# EAGLE library part 74X40105 (library Custom)
4Bit x 16 Shift Register
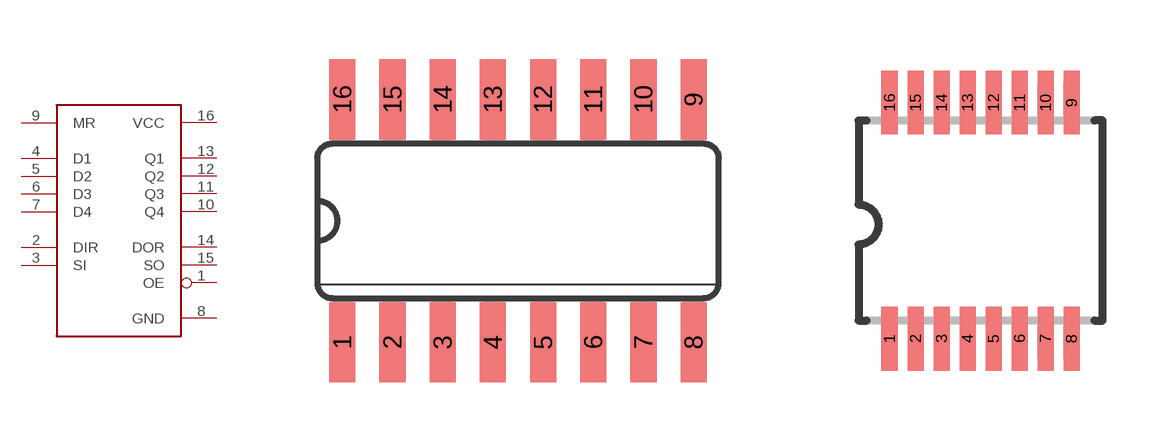
[diagram p12: symbol with the pads of SO16; footprints SO16, TSSOP16]

Designator prefix -

## 74X40105SO16  [SO16]
1  OE  in
2  DIR  out
3  SI  in
4  D1  out
5  D2  in
6  D3  in
7  D4  in
8  GND  pwr
9  MR  in
10  Q4  out
11  Q3  out
12  Q2  out
13  Q1  out
14  DOR  out
15  SO  in
16  VCC  pwr

## 74X40105TSSOP16  [TSSOP16]
1  OE  in
2  DIR  out
3  SI  in
4  Q1  out
5  Q2  out
6  Q3  out
7  Q4  out
8  GND  pwr
9  MR  in
10  D4  in
11  D3  in
12  D2  in
13  D1  out
14  DOR  out
15  SO  in
16  VCC  pwr

## Footprint SO16 (pad centres in mm)
Small Outline package 150 mil
smd 0.66 x 2.032: 1 -4.445,-3.073; 2 -3.175,-3.073; 3 -1.905,-3.073; 4 -0.635,-3.073; 5 0.635,-3.073; 6 1.905,-3.073; 7 3.175,-3.073; 8 4.445,-3.073; 9 4.445,3.073; 10 3.175,3.073; 11 1.905,3.073; 12 0.635,3.073; 13 -0.635,3.073; 14 -1.905,3.073; 15 -3.175,3.073; 16 -4.445,3.073

## Footprint TSSOP16 (pad centres in mm)
TSOP16 thin small outline package
smd 0.4 x 1.6: 1 -2.225,-2.85; 2 -1.575,-2.85; 3 -0.925,-2.85; 4 -0.275,-2.85; 5 0.375,-2.85; 6 1.025,-2.85; 7 1.675,-2.85; 8 2.325,-2.85; 9 2.325,3.05; 10 1.675,3.05; 11 1.025,3.05; 12 0.375,3.05; 13 -0.275,3.05; 14 -0.925,3.05; 15 -1.575,3.05; 16 -2.225,3.05